# EAGLE library part H3LIS100DL (library H3LIS100DL)
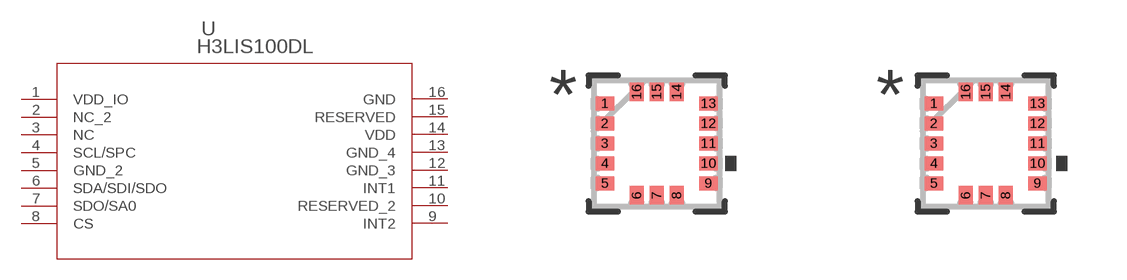
[diagram p0: symbol with the pads of TFLGA16_3P15X3P15_STM; footprints TFLGA16_3P15X3P15_STM, TFLGA16_3P15X3P15_STM-M]

Designator prefix U

## H3LIS100DL (COPYRIGHT: Copyright (C) 2022 Ultra Librarian. All rights reserved.; MANUFACTURER_PART_NUMBER: H3LIS100DL; MFR_NAME: STMicroelectronics)  [TFLGA16_3P15X3P15_STM]
1  VDD_IO  pwr
2  NC_2  nc
3  NC  nc
4  SCL/SPC
5  GND_2  pwr
6  SDA/SDI/SDO
7  SDO/SA0
8  CS
9  INT2
10  RESERVED_2  pas
11  INT1
12  GND_3  pwr
13  GND_4  pwr
14  VDD  pwr
15  RESERVED  pas
16  GND  pwr

## H3LIS100DLTFLGA16_3P15X3P15_STM-M (COPYRIGHT: Copyright (C) 2022 Ultra Librarian. All rights reserved.; MANUFACTURER_PART_NUMBER: H3LIS100DL; MFR_NAME: STMicroelectronics)  [TFLGA16_3P15X3P15_STM-M]
Pads as for TFLGA16_3P15X3P15_STM

## H3LIS100DLTFLGA16_3P15X3P15_STM-L (COPYRIGHT: Copyright (C) 2022 Ultra Librarian. All rights reserved.; MANUFACTURER_PART_NUMBER: H3LIS100DL; MFR_NAME: STMicroelectronics)  [TFLGA16_3P15X3P15_STM-L]
Pads as for TFLGA16_3P15X3P15_STM

## Footprint TFLGA16_3P15X3P15_STM (pad centres in mm)
smd 0.457 x 0.356: 1 -1.295,1; 2 -1.295,0.5; 3 -1.295,0; 4 -1.295,-0.5; 5 -1.295,-1; 9 1.295,-1; 10 1.295,-0.5; 11 1.295,0; 12 1.295,0.5; 13 1.295,1
smd 0.356 x 0.457: 6 -0.5,-1.295; 7 0,-1.295; 8 0.5,-1.295; 14 0.5,1.295; 15 0,1.295; 16 -0.5,1.295

## Footprint TFLGA16_3P15X3P15_STM-M (pad centres in mm)
smd 0.457 x 0.356: 1 -1.295,1; 2 -1.295,0.5; 3 -1.295,0; 4 -1.295,-0.5; 5 -1.295,-1; 9 1.295,-1; 10 1.295,-0.5; 11 1.295,0; 12 1.295,0.5; 13 1.295,1
smd 0.356 x 0.457: 6 -0.5,-1.295; 7 0,-1.295; 8 0.5,-1.295; 14 0.5,1.295; 15 0,1.295; 16 -0.5,1.295

## Footprint TFLGA16_3P15X3P15_STM-L (pad centres in mm)
smd 0.457 x 0.356: 1 -1.295,1; 2 -1.295,0.5; 3 -1.295,0; 4 -1.295,-0.5; 5 -1.295,-1; 9 1.295,-1; 10 1.295,-0.5; 11 1.295,0; 12 1.295,0.5; 13 1.295,1
smd 0.356 x 0.457: 6 -0.5,-1.295; 7 0,-1.295; 8 0.5,-1.295; 14 0.5,1.295; 15 0,1.295; 16 -0.5,1.295